# EAGLE library part MSP430BT5190-PZ100 (library TI MSP430BT5190)
***MSP430F54xx***PZ100
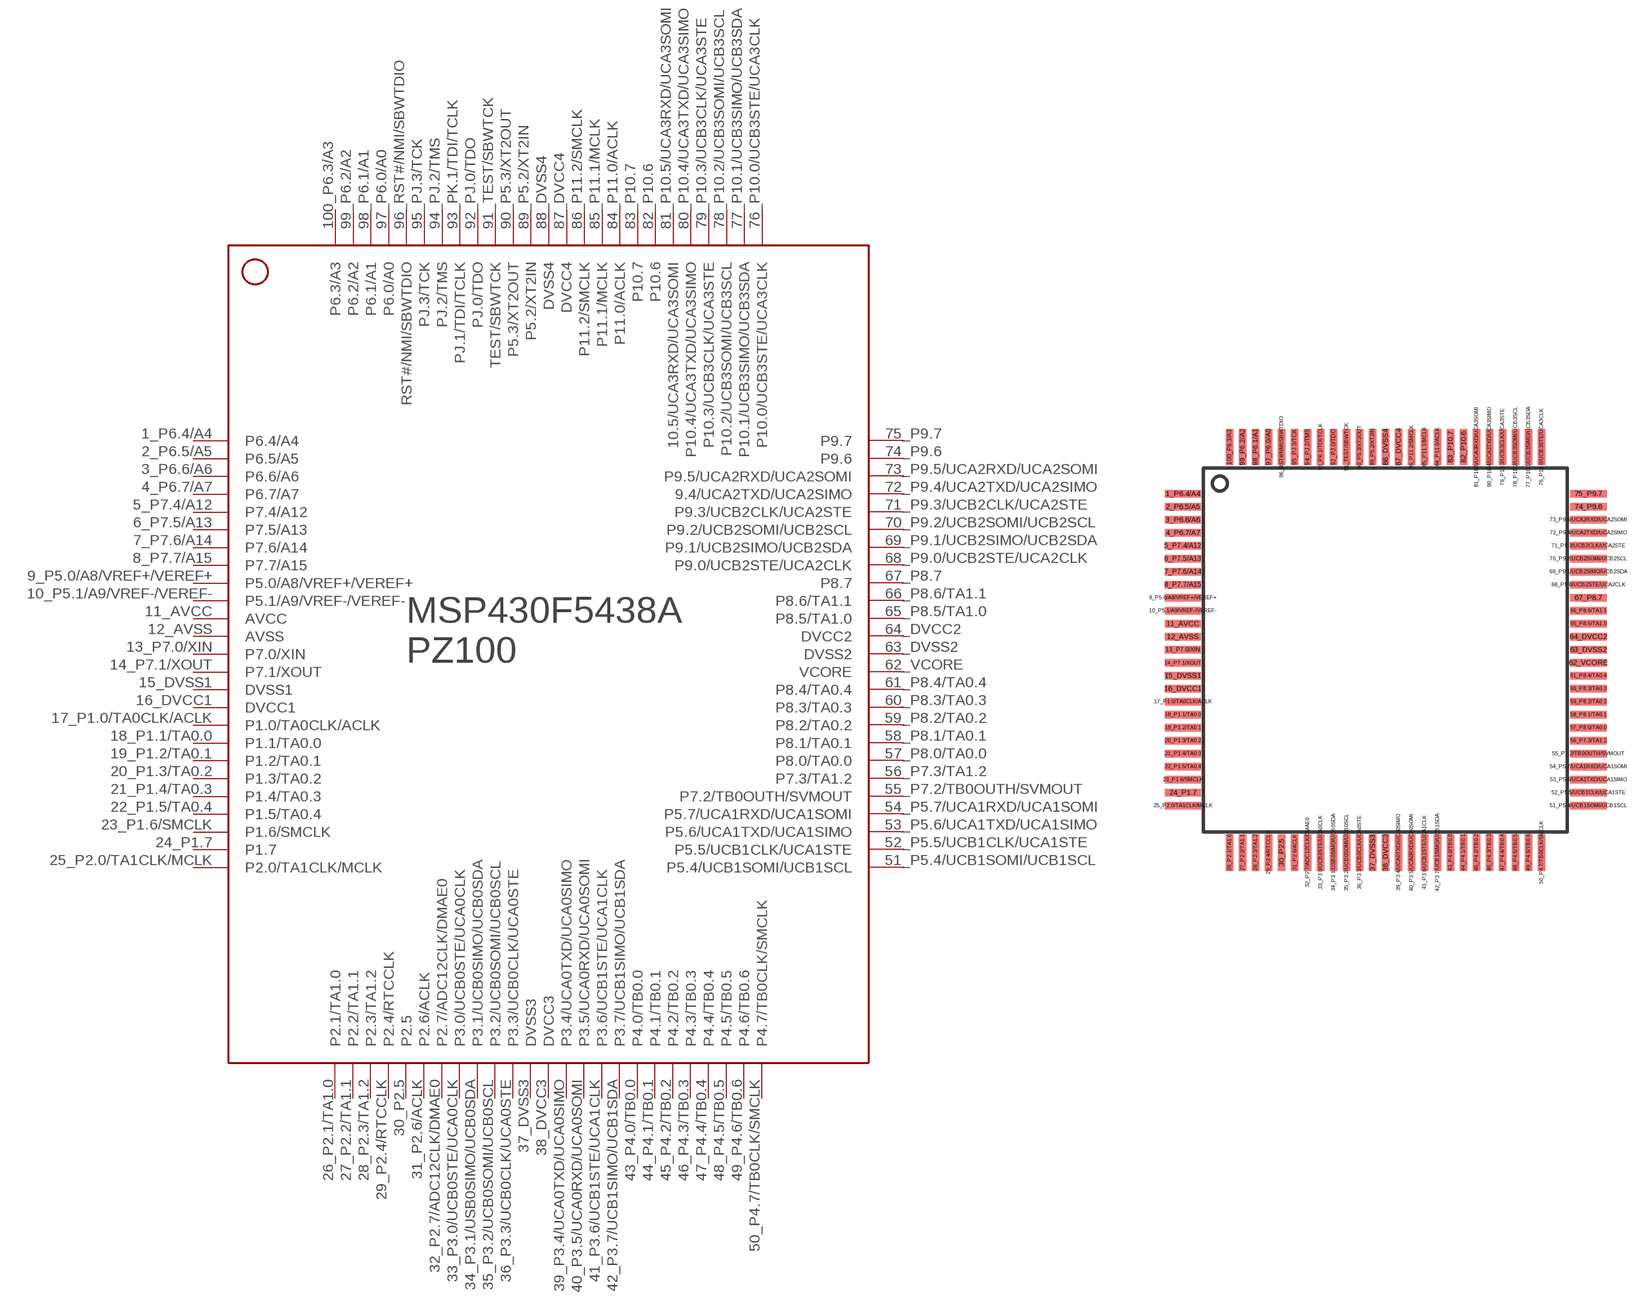
[diagram p0: symbol with the pads of PZ100; footprint PZ100]

Designator prefix -

## MSP430BT5190-PZ100  [PZ100]
1_P6.4/A4  P6.4/A4
2_P6.5/A5  P6.5/A5
3_P6.6/A6  P6.6/A6
4_P6.7/A7  P6.7/A7
5_P7.4/A12  P7.4/A12
6_P7.5/A13  P7.5/A13
7_P7.6/A14  P7.6/A14
8_P7.7/A15  P7.7/A15
9_P5.0/A8/VREF+/VEREF+  P5.0/A8/VREF+/VEREF+
10_P5.1/A9/VREF-/VEREF-  P5.1/A9/VREF-/VEREF-
11_AVCC  AVCC
12_AVSS  AVSS
13_P7.0/XIN  P7.0/XIN
14_P7.1/XOUT  P7.1/XOUT
15_DVSS1  DVSS1
16_DVCC1  DVCC1
17_P1.0/TA0CLK/ACLK  P1.0/TA0CLK/ACLK
18_P1.1/TA0.0  P1.1/TA0.0
19_P1.2/TA0.1  P1.2/TA0.1
20_P1.3/TA0.2  P1.3/TA0.2
21_P1.4/TA0.3  P1.4/TA0.3
22_P1.5/TA0.4  P1.5/TA0.4
23_P1.6/SMCLK  P1.6/SMCLK
24_P1.7  P1.7
25_P2.0/TA1CLK/MCLK  P2.0/TA1CLK/MCLK
26_P2.1/TA1.0  P2.1/TA1.0
27_P2.2/TA1.1  P2.2/TA1.1
28_P2.3/TA1.2  P2.3/TA1.2
29_P2.4/RTCCLK  P2.4/RTCCLK
30_P2.5  P2.5
31_P2.6/ACLK  P2.6/ACLK
32_P2.7/ADC12CLK/DMAE0  P2.7/ADC12CLK/DMAE0
33_P3.0/UCB0STE/UCA0CLK  P3.0/UCB0STE/UCA0CLK
34_P3.1/USB0SIMO/UCB0SDA  P3.1/UCB0SIMO/UCB0SDA
35_P3.2/UCB0SOMI/UCB0SCL  P3.2/UCB0SOMI/UCB0SCL
36_P3.3/UCB0CLK/UCA0STE  P3.3/UCB0CLK/UCA0STE
37_DVSS3  DVSS3
38_DVCC3  DVCC3
39_P3.4/UCA0TXD/UCA0SIMO  P3.4/UCA0TXD/UCA0SIMO
40_P3.5/UCA0RXD/UCA0SOMI  P3.5/UCA0RXD/UCA0SOMI
41_P3.6/UCB1STE/UCA1CLK  P3.6/UCB1STE/UCA1CLK
42_P3.7/UCB1SIMO/UCB1SDA  P3.7/UCB1SIMO/UCB1SDA
43_P4.0/TB0.0  P4.0/TB0.0
44_P4.1/TB0.1  P4.1/TB0.1
45_P4.2/TB0.2  P4.2/TB0.2
46_P4.3/TB0.3  P4.3/TB0.3
47_P4.4/TB0.4  P4.4/TB0.4
48_P4.5/TB0.5  P4.5/TB0.5
49_P4.6/TB0.6  P4.6/TB0.6
50_P4.7/TB0CLK/SMCLK  P4.7/TB0CLK/SMCLK
51_P5.4/UCB1SOMI/UCB1SCL  P5.4/UCB1SOMI/UCB1SCL
52_P5.5/UCB1CLK/UCA1STE  P5.5/UCB1CLK/UCA1STE
53_P5.6/UCA1TXD/UCA1SIMO  P5.6/UCA1TXD/UCA1SIMO
54_P5.7/UCA1RXD/UCA1SOMI  P5.7/UCA1RXD/UCA1SOMI
55_P7.2/TB0OUTH/SVMOUT  P7.2/TB0OUTH/SVMOUT
56_P7.3/TA1.2  P7.3/TA1.2
57_P8.0/TA0.0  P8.0/TA0.0
58_P8.1/TA0.1  P8.1/TA0.1
59_P8.2/TA0.2  P8.2/TA0.2
60_P8.3/TA0.3  P8.3/TA0.3
61_P8.4/TA0.4  P8.4/TA0.4
62_VCORE  VCORE
63_DVSS2  DVSS2
64_DVCC2  DVCC2
65_P8.5/TA1.0  P8.5/TA1.0
66_P8.6/TA1.1  P8.6/TA1.1
67_P8.7  P8.7
68_P9.0/UCB2STE/UCA2CLK  P9.0/UCB2STE/UCA2CLK
69_P9.1/UCB2SIMO/UCB2SDA  P9.1/UCB2SIMO/UCB2SDA
70_P9.2/UCB2SOMI/UCB2SCL  P9.2/UCB2SOMI/UCB2SCL
71_P9.3/UCB2CLK/UCA2STE  P9.3/UCB2CLK/UCA2STE
72_P9.4/UCA2TXD/UCA2SIMO  9.4/UCA2TXD/UCA2SIMO
73_P9.5/UCA2RXD/UCA2SOMI  P9.5/UCA2RXD/UCA2SOMI
74_P9.6  P9.6
75_P9.7  P9.7
76_P10.0/UCB3STE/UCA3CLK  P10.0/UCB3STE/UCA3CLK
77_P10.1/UCB3SIMO/UCB3SDA  P10.1/UCB3SIMO/UCB3SDA
78_P10.2/UCB3SOMI/UCB3SCL  P10.2/UCB3SOMI/UCB3SCL
79_P10.3/UCB3CLK/UCA3STE  P10.3/UCB3CLK/UCA3STE
80_P10.4/UCA3TXD/UCA3SIMO  P10.4/UCA3TXD/UCA3SIMO
81_P10.5/UCA3RXD/UCA3SOMI  10.5/UCA3RXD/UCA3SOMI
82_P10.6  P10.6
83_P10.7  P10.7
84_P11.0/ACLK  P11.0/ACLK
85_P11.1/MCLK  P11.1/MCLK
86_P11.2/SMCLK  P11.2/SMCLK
87_DVCC4  DVCC4
88_DVSS4  DVSS4
89_P5.2/XT2IN  P5.2/XT2IN
90_P5.3/XT2OUT  P5.3/XT2OUT
91_TEST/SBWTCK  TEST/SBWTCK
92_PJ.0/TDO  PJ.0/TDO
93_PK.1/TDI/TCLK  PJ.1/TDI/TCLK
94_PJ.2/TMS  PJ.2/TMS
95_PJ.3/TCK  PJ.3/TCK
96_RST#/NMI/SBWTDIO  RST#/NMI/SBWTDIO
97_P6.0/A0  P6.0/A0
98_P6.1/A1  P6.1/A1
99_P6.2/A2  P6.2/A2
100_P6.3/A3  P6.3/A3

## Footprint PZ100 (pad centres in mm)
*** TI: PZ *** JEDEC: S-PQFP-G100 *** 100 PINS ***
smd 1.4 x 0.3: 1_P6.4/A4 -7.8,6; 2_P6.5/A5 -7.8,5.5; 3_P6.6/A6 -7.8,5; 4_P6.7/A7 -7.8,4.5; 5_P7.4/A12 -7.8,4; 6_P7.5/A13 -7.8,3.5; 7_P7.6/A14 -7.8,3; 8_P7.7/A15 -7.8,2.5; 9_P5.0/A8/VREF+/VEREF+ -7.8,2; 10_P5.1/A9/VREF-/VEREF- -7.8,1.5; 11_AVCC -7.8,1; 12_AVSS -7.8,0.5; 13_P7.0/XIN -7.8,0; 14_P7.1/XOUT -7.8,-0.5; 15_DVSS1 -7.8,-1; 16_DVCC1 -7.8,-1.5; 17_P1.0/TA0CLK/ACLK -7.8,-2; 18_P1.1/TA0.0 -7.8,-2.5; 19_P1.2/TA0.1 -7.8,-3; 20_P1.3/TA0.2 -7.8,-3.5; 21_P1.4/TA0.3 -7.8,-4; 22_P1.5/TA0.4 -7.8,-4.5; 23_P1.6/SMCLK -7.8,-5; 24_P1.7 -7.8,-5.5; 25_P2.0/TA1CLK/MCLK -7.8,-6; 51_P5.4/UCB1SOMI/UCB1SCL 7.8,-6; 52_P5.5/UCB1CLK/UCA1STE 7.8,-5.5; 53_P5.6/UCA1TXD/UCA1SIMO 7.8,-5; 54_P5.7/UCA1RXD/UCA1SOMI 7.8,-4.5; 55_P7.2/TB0OUTH/SVMOUT 7.8,-4; 56_P7.3/TA1.2 7.8,-3.5; 57_P8.0/TA0.0 7.8,-3; 58_P8.1/TA0.1 7.8,-2.5; 59_P8.2/TA0.2 7.8,-2; 60_P8.3/TA0.3 7.8,-1.5; 61_P8.4/TA0.4 7.8,-1; 62_VCORE 7.8,-0.5; 63_DVSS2 7.8,0; 64_DVCC2 7.8,0.5; 65_P8.5/TA1.0 7.8,1; 66_P8.6/TA1.1 7.8,1.5; 67_P8.7 7.8,2; 68_P9.0/UCB2STE/UCA2CLK 7.8,2.5; 69_P9.1/UCB2SIMO/UCB2SDA 7.8,3; 70_P9.2/UCB2SOMI/UCB2SCL 7.8,3.5; 71_P9.3/UCB2CLK/UCA2STE 7.8,4; 72_P9.4/UCA2TXD/UCA2SIMO 7.8,4.5; 73_P9.5/UCA2RXD/UCA2SOMI 7.8,5; 74_P9.6 7.8,5.5; 75_P9.7 7.8,6
smd 0.3 x 1.4: 26_P2.1/TA1.0 -6,-7.8; 27_P2.2/TA1.1 -5.5,-7.8; 28_P2.3/TA1.2 -5,-7.8; 29_P2.4/RTCCLK -4.5,-7.8; 30_P2.5 -4,-7.8; 31_P2.6/ACLK -3.5,-7.8; 32_P2.7/ADC12CLK/DMAE0 -3,-7.8; 33_P3.0/UCB0STE/UCA0CLK -2.5,-7.8; 34_P3.1/USB0SIMO/UCB0SDA -2,-7.8; 35_P3.2/UCB0SOMI/UCB0SCL -1.5,-7.8; 36_P3.3/UCB0CLK/UCA0STE -1,-7.8; 37_DVSS3 -0.5,-7.8; 38_DVCC3 0,-7.8; 39_P3.4/UCA0TXD/UCA0SIMO 0.5,-7.8; 40_P3.5/UCA0RXD/UCA0SOMI 1,-7.8; 41_P3.6/UCB1STE/UCA1CLK 1.5,-7.8; 42_P3.7/UCB1SIMO/UCB1SDA 2,-7.8; 43_P4.0/TB0.0 2.5,-7.8; 44_P4.1/TB0.1 3,-7.8; 45_P4.2/TB0.2 3.5,-7.8; 46_P4.3/TB0.3 4,-7.8; 47_P4.4/TB0.4 4.5,-7.8; 48_P4.5/TB0.5 5,-7.8; 49_P4.6/TB0.6 5.5,-7.8; 50_P4.7/TB0CLK/SMCLK 6,-7.8; 76_P10.0/UCB3STE/UCA3CLK 6,7.8; 77_P10.1/UCB3SIMO/UCB3SDA 5.5,7.8; 78_P10.2/UCB3SOMI/UCB3SCL 5,7.8; 79_P10.3/UCB3CLK/UCA3STE 4.5,7.8; 80_P10.4/UCA3TXD/UCA3SIMO 4,7.8; 81_P10.5/UCA3RXD/UCA3SOMI 3.5,7.8; 82_P10.6 3,7.8; 83_P10.7 2.5,7.8; 84_P11.0/ACLK 2,7.8; 85_P11.1/MCLK 1.5,7.8; 86_P11.2/SMCLK 1,7.8; 87_DVCC4 0.5,7.8; 88_DVSS4 0,7.8; 89_P5.2/XT2IN -0.5,7.8; 90_P5.3/XT2OUT -1,7.8; 91_TEST/SBWTCK -1.5,7.8; 92_PJ.0/TDO -2,7.8; 93_PK.1/TDI/TCLK -2.5,7.8; 94_PJ.2/TMS -3,7.8; 95_PJ.3/TCK -3.5,7.8; 96_RST#/NMI/SBWTDIO -4,7.8; 97_P6.0/A0 -4.5,7.8; 98_P6.1/A1 -5,7.8; 99_P6.2/A2 -5.5,7.8; 100_P6.3/A3 -6,7.8